# Altium footprint library MODULEs.PcbLib: 10 footprints (part 2 of 2)
Each footprint in its own frame and in the unit in brackets; x right, y up, seen from the top. Pads: shape width x height; smd on the part's side, far side on the other; paste and mask are expansions set on the pad; w line width, h text height; cw(c..) or ccw(c..) is an arc to the next point about the centre after c.
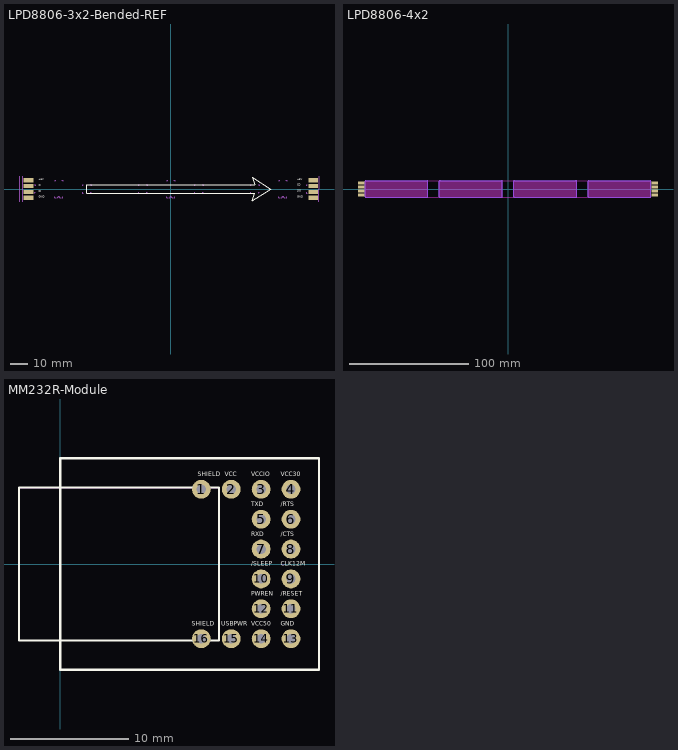
[diagram p1: the footprints below, top view; thin cyan lines are the x and y axes]

## LPD8806-3x2-Bended-REF [mm] "Digital Addressable RGB LED w/ PWM waterproof flexi strip - 3 modules of 2 LEDs"
pads (8):
  rect 5.5x2.5 smd: 1(-79.45,5) 2(-79.45,1.67) 3(-79.45,-1.67) 4(-79.45,-5) 5(79.45,-5) 6(79.45,-1.67) 7(79.45,1.67) 8(79.45,5)
Top Overlay:
  lines w0.2: -46.812,-2.45 46.812,-2.45 45.438,-6.5 55.762,0 45.438,6.5 46.812,2.45 -46.812,2.45 -46.812,-2.45
  text "GND" at 70.45,-5.55 h1.52
  text "DO" at 70.45,-2.22 h1.52
  text "CO" at 70.45,1.12 h1.52
  text "+5V" at 70.45,4.45 h1.52
  text "+5V" at -73.675,4.425 h1.52
  text "CI" at -73.675,1.095 h1.52
  text "DI" at -73.675,-2.245 h1.52
  text "GND" at -73.675,-5.575 h1.52
TopBody:
  lines w0.1: -63.6,-5 -63.199,-5 cw(c-62.5,-4.999) -61.801,-5 -61.4,-4.999 ; -1.1,-5 -0.7,-5 cw(c0,-5) 0.699,-5 1.1,-5 ; 61.4,-5 61.8,-5 cw(c62.5,-5) 63.199,-5 63.6,-5
  lines w0.2: -84.651,7.05 -84.647,-7.05 ; -82.65,-7.05 -82.646,7.05 ; -80.65,-1.95 -80.65,-2.499 -80.1,-2.499 ; -80.649,1.95 -80.65,2.499 -80.1,2.5 ; -76.2,-2.5 -76.2,-1.95 -75.651,-1.95 ; -76.2,2.499 -75.651,2.499 -75.65,1.95 ; -64.749,-4.45 -64.749,-4.999 -64.2,-5 ; -64.749,4.45 -64.749,4.999 -64.2,5 ; -60.8,-4.999 -60.251,-4.999 -60.25,-4.45 ; -60.8,4.999 -60.251,4.999 -60.25,4.45 ; -49.35,-1.95 -49.349,-2.499 -48.8,-2.499 ; -49.349,1.95 -49.349,2.5 -48.8,2.5 ; -44.9,-2.499 -44.9,-1.95 -44.351,-1.95 ; -44.9,2.5 -44.35,2.5 -44.35,1.95 ; -18.15,-1.95 -18.15,-2.5 -17.6,-2.5 ; -18.149,1.95 -18.15,2.499 -17.6,2.499 ; -13.7,-2.5 -13.7,-1.95 -13.151,-1.95 ; -13.7,2.499 -13.151,2.499 -13.15,1.95 ; -2.249,-4.45 -2.25,-5 -1.7,-5 ; -2.249,4.45 -2.25,4.999 -1.7,4.999 ; 1.7,-5 2.249,-5 2.25,-4.45 ; 1.7,4.999 2.249,4.999 2.25,4.45 ; 13.15,-1.95 13.151,-2.499 13.7,-2.499 ; 13.151,1.95 13.151,2.499 13.7,2.5 ; 17.6,-2.5 17.6,-1.95 18.149,-1.95 ; 17.6,2.499 18.15,2.499 18.15,1.95 ; 44.35,-1.95 44.35,-2.5 44.9,-2.5 ; 44.35,1.95 44.35,2.499 44.9,2.499 ; 48.8,-2.5 48.8,-1.95 49.349,-1.95 ; 48.8,2.499 49.349,2.499 49.349,1.95 ; 60.25,-4.45 60.25,-5 60.8,-5 ; 60.25,4.45 60.25,4.999 60.8,4.999 ; 64.2,-5 64.749,-5 64.749,-4.45 ; 64.2,4.999 64.749,4.999 64.749,4.45 ; 75.65,-1.95 75.65,-2.499 76.2,-2.499 ; 75.651,1.95 75.65,2.499 76.2,2.5 ; 80.1,-2.5 80.1,-1.95 80.649,-1.95 ; 80.1,2.499 80.649,2.499 80.65,1.95 ; 82.646,-7.05 82.65,7.05
3D body: height 0.5, standoff 0.4, extent 77.679,-6.221 82.121,-3.79
3D body: height 0.5, standoff 0.4, extent 77.679,-2.891 82.121,-0.46
3D body: height 0.5, standoff 0.4, extent 77.679,3.779 82.121,6.21
3D body: height 0.5, standoff 0.4, extent 77.679,0.449 82.121,2.88
3D body: height 0.41, standoff -6.61, extent -84.65,-7.05 -77.64,7.05
3D body: height -6.73, standoff -8.32, extent 76.059,-2.09 80.24,2.09
3D body: height -6.73, standoff -8.31, extent 75.65,-2.499 80.649,2.499
3D body: height -6.73, standoff -8.31, extent 44.35,-2.5 49.349,2.499
3D body: height -6.73, standoff -8.32, extent 44.76,-2.09 48.94,2.09
3D body: height -6.73, standoff -8.32, extent -48.94,-2.09 -44.76,2.09
3D body: height -6.73, standoff -8.31, extent -49.349,-2.499 -44.35,2.5
3D body: height -6.73, standoff -8.32, extent -80.24,-2.09 -76.06,2.09
3D body: height -6.73, standoff -8.31, extent -80.65,-2.499 -75.651,2.499
3D body: height -6.73, standoff -8.52, extent -2.25,-5 2.249,4.999
3D body: height -6.73, standoff -8.31, extent -18.15,-2.5 -13.151,2.499
3D body: height -6.73, standoff -8.32, extent -17.74,-2.09 -13.56,2.09
3D body: height -6.73, standoff -8.31, extent 13.151,-2.499 18.15,2.499
3D body: height -6.73, standoff -7.93, extent -2.25,-5 2.249,4.999
3D body: height -6.73, standoff -8.52, extent 60.25,-5 64.749,4.999
3D body: height -6.73, standoff -7.93, extent 60.25,-5 64.749,4.999
3D body: height -6.73, standoff -7.93, extent -64.749,-4.999 -60.251,4.999
3D body: height -6.73, standoff -8.32, extent 13.56,-2.09 17.74,2.09
3D body: height -6.32, standoff -6.63, extent -82.65,-7.05 82.65,7.05
3D body: height -7.93, standoff -8.52, extent -64.749,-5 -60.251,4.999
3D body: height 0.41, standoff -6.61, extent 77.64,-7.05 84.65,7.05
3D body: height 0.5, standoff 0.4, extent -82.121,0.449 -77.679,2.881
3D body: height 0.5, standoff 0.4, extent -82.121,3.779 -77.679,6.211
3D body: height 0.5, standoff 0.4, extent -82.121,-2.891 -77.679,-0.459
3D body: height 0.5, standoff 0.4, extent -82.121,-6.221 -77.679,-3.789
3D body: height 0.1, standoff 0, extent 77.679,0.449 82.121,2.88
3D body: height 0.1, standoff 0, extent 77.679,3.779 82.121,6.21
3D body: height 0.1, standoff 0, extent 77.679,-2.891 82.121,-0.46
3D body: height 0.1, standoff 0, extent 77.679,-6.221 82.121,-3.79
3D body: height 0.1, standoff 0, extent -82.121,-6.221 -77.679,-3.789
3D body: height 0.1, standoff 0, extent -82.121,-2.891 -77.679,-0.459
3D body: height 0.1, standoff 0, extent -82.121,3.779 -77.679,6.211
3D body: height 0.1, standoff 0, extent -82.121,0.449 -77.679,2.881

## LPD8806-4x2 [mm] "Digital Addressable RGB LED w/ PWM waterproof flexi strip - 4 modules of 2 LEDs"
pads (8):
  rect 5.5x2.5 smd: 1(-123.6,5) 2(-123.6,1.67) 3(-123.6,-1.67) 4(-123.6,-5) 5(123.6,-5) 6(123.6,-1.67) 7(123.6,1.67) 8(123.6,5)
Top Layer keep-out:
  lines w0.5: -120.15,-6.6 ccw(c-119.65,-6.6) -119.65,-7.1 119.65,-7.1 ccw(c119.65,-6.6) 120.15,-6.6 120.15,6.6 ccw(c119.65,6.6) 119.65,7.1 -119.65,7.1 ccw(c-119.65,6.6) -120.15,6.6 -120.15,-6.6
Bottom Layer keep-out:
  lines w0.5: -120.45,-6.6 ccw(c-119.95,-6.6) -119.95,-7.1 -68.15,-7.1 ccw(c-68.15,-6.6) -67.65,-6.6 -67.65,6.6 ccw(c-68.15,6.6) -68.15,7.1 -119.95,7.1 ccw(c-119.95,6.6) -120.45,6.6 -120.45,-6.6 ; -57.75,-6.6 ccw(c-57.25,-6.6) -57.25,-7.1 -5.45,-7.1 ccw(c-5.45,-6.6) -4.95,-6.6 -4.95,6.6 ccw(c-5.45,6.6) -5.45,7.1 -57.25,7.1 ccw(c-57.25,6.6) -57.75,6.6 -57.75,-6.6 ; 4.95,-6.6 ccw(c5.45,-6.6) 5.45,-7.1 57.25,-7.1 ccw(c57.25,-6.6) 57.75,-6.6 57.75,6.6 ccw(c57.25,6.6) 57.25,7.1 5.45,7.1 ccw(c5.45,6.6) 4.95,6.6 4.95,-6.6 ; 67.65,-6.6 ccw(c68.15,-6.6) 68.15,-7.1 119.95,-7.1 ccw(c119.95,-6.6) 120.45,-6.6 120.45,6.6 ccw(c119.95,6.6) 119.95,7.1 68.15,7.1 ccw(c68.15,6.6) 67.65,6.6 67.65,-6.6
Keep-Out Layer:
  board cut-out: -119.95,-7.1 -68.15,-7.1 -68.15,-7.11 -67.955,-7.071 -67.79,-6.961 -67.679,-6.795 -67.64,-6.6 -67.65,-6.6 -67.64,6.6 -67.679,6.795 -67.79,6.96 -67.955,7.071 -68.15,7.11 -68.15,7.1 -119.95,7.11 -120.145,7.071 -120.31,6.96 -120.421,6.795 -120.46,6.6 -120.45,6.6 -120.46,-6.6 -120.421,-6.795 -120.31,-6.96 -120.145,-7.071 -119.95,-7.11
  board cut-out: 67.64,-6.6 67.679,-6.795 67.79,-6.96 67.955,-7.071 68.15,-7.11 68.15,-7.1 119.95,-7.11 120.145,-7.071 120.31,-6.96 120.421,-6.795 120.46,-6.6 120.45,-6.6 120.46,6.6 120.421,6.795 120.31,6.96 120.145,7.071 119.95,7.11 119.95,7.1 68.15,7.11 67.955,7.071 67.79,6.96 67.679,6.795 67.64,6.6 67.65,6.6
  board cut-out: 4.94,-6.6 4.979,-6.795 5.09,-6.96 5.255,-7.071 5.45,-7.11 5.45,-7.1 57.25,-7.1 57.25,-7.11 57.445,-7.071 57.61,-6.961 57.721,-6.795 57.76,-6.6 57.75,-6.6 57.76,6.6 57.721,6.795 57.61,6.96 57.445,7.071 57.25,7.11 57.25,7.1 5.45,7.11 5.255,7.071 5.09,6.96 4.979,6.795 4.94,6.6 4.95,6.6
  board cut-out: -57.25,-7.11 -57.445,-7.071 -57.61,-6.96 -57.721,-6.795 -57.76,-6.6 -57.75,-6.6 -57.76,6.6 -57.721,6.795 -57.61,6.96 -57.445,7.071 -57.25,7.11 -57.25,7.1 -5.45,7.1 -5.45,7.11 -5.255,7.071 -5.09,6.96 -4.979,6.795 -4.94,6.6 -4.95,6.6 -4.94,-6.6 -4.979,-6.795 -5.09,-6.961 -5.255,-7.071 -5.45,-7.11 -5.45,-7.1
Outline:
  lines w0.1: -120.45,-6.6 ccw(c-119.95,-6.6) -119.95,-7.1 -68.15,-7.1 ccw(c-68.15,-6.6) -67.65,-6.6 -67.65,6.6 ccw(c-68.15,6.6) -68.15,7.1 -119.95,7.1 ccw(c-119.95,6.6) -120.45,6.6 -120.45,-6.6 ; -57.75,-6.6 ccw(c-57.25,-6.6) -57.25,-7.1 -5.45,-7.1 ccw(c-5.45,-6.6) -4.95,-6.6 -4.95,6.6 ccw(c-5.45,6.6) -5.45,7.1 -57.25,7.1 ccw(c-57.25,6.6) -57.75,6.6 -57.75,-6.6 ; 4.95,-6.6 ccw(c5.45,-6.6) 5.45,-7.1 57.25,-7.1 ccw(c57.25,-6.6) 57.75,-6.6 57.75,6.6 ccw(c57.25,6.6) 57.25,7.1 5.45,7.1 ccw(c5.45,6.6) 4.95,6.6 4.95,-6.6 ; 67.65,-6.6 ccw(c68.15,-6.6) 68.15,-7.1 119.95,-7.1 ccw(c119.95,-6.6) 120.45,-6.6 120.45,6.6 ccw(c119.95,6.6) 119.95,7.1 68.15,7.1 ccw(c68.15,6.6) 67.65,6.6 67.65,-6.6
3D body: height 0.3, standoff 0, extent -125.4,-7.05 125.4,7.05
3D body: height 0, standoff -1.59, extent -112.9,-2.5 -107.901,2.499
3D body: height 0, standoff -1.6, extent -112.49,-2.09 -108.31,2.09
3D body: height 0, standoff -1.6, extent -112.49,-2.09 -108.31,2.09
3D body: height 0, standoff -1.59, extent -112.9,-2.5 -107.901,2.499
3D body: height 0, standoff -1.6, extent -49.79,-2.09 -45.61,2.09
3D body: height 0, standoff -1.59, extent -50.2,-2.5 -45.201,2.499
3D body: height 0, standoff -1.59, extent -80.199,-2.499 -75.201,2.499
3D body: height 0, standoff -1.6, extent -79.79,-2.09 -75.61,2.09
3D body: height 0, standoff -1.6, extent 12.91,-2.09 17.09,2.09
3D body: height 0, standoff -1.59, extent 12.5,-2.5 17.499,2.499
3D body: height 0, standoff -1.59, extent -17.499,-2.499 -12.501,2.499
3D body: height 0, standoff -1.6, extent -17.09,-2.09 -12.91,2.09
3D body: height 0, standoff -1.6, extent 75.61,-2.09 79.79,2.09
3D body: height 0, standoff -1.59, extent 75.2,-2.5 80.199,2.499
3D body: height 0, standoff -1.59, extent 45.201,-2.499 50.199,2.499
3D body: height 0, standoff -1.6, extent 45.61,-2.09 49.79,2.09
3D body: height 0, standoff -1.59, extent 107.901,-2.499 112.899,2.499
3D body: height 0, standoff -1.6, extent 108.31,-2.09 112.49,2.09
3D body: height 0, standoff -1.8, extent -96.299,-4.999 -91.801,4.999
3D body: height 0, standoff -1.8, extent -33.599,-4.999 -29.101,4.999
3D body: height 0, standoff -1.8, extent 29.101,-4.999 33.599,4.999
3D body: height 0, standoff -1.8, extent 91.801,-4.999 96.299,4.999

## MM232R-Module [mm] "MM232R - FTDI - KIT, USB-UART TTL, FT232RL, Module"
height 15
pads (16):
  round 1.6 hole 0.8: 1(12,6.35) 2(14.54,6.35) 3(17.08,6.35) 4(19.62,6.35) 5(17.08,3.81) 6(19.62,3.81) 7(17.08,1.27) 8(19.62,1.27) 9(19.62,-1.27) 10(17.08,-1.27) 11(19.62,-3.81) 12(17.08,-3.81) 13(19.62,-6.35) 14(17.08,-6.35) 15(14.54,-6.35) 16(12,-6.35)
Top Overlay:
  lines w0.2: -3.5,-6.5 13.5,-6.5 13.5,6.5 -3.5,6.5 -3.5,-6.5 ; 0,-9 0,9 22,9 22,-9 0,-9
  text "SHIELD" at 11.7,7.325 h0.64
  text "VCC" at 13.97,7.325 h0.64
  text "VCCIO" at 16.25,7.325 h0.64
  text "VCC30" at 18.75,7.325 h0.64
  text "/RTS" at 18.75,4.785 h0.64
  text "TXD" at 16.25,4.785 h0.64
  text "/SLEEP" at 16.25,-0.295 h0.64
  text "CLK12M" at 18.75,-0.295 h0.64
  text "/CTS" at 18.75,2.245 h0.64
  text "RXD" at 16.25,2.245 h0.64
  text "VCC50" at 16.25,-5.375 h0.64
  text "GND" at 18.75,-5.375 h0.64
  text "/RESET" at 18.75,-2.835 h0.64
  text "PWREN" at 16.25,-2.835 h0.64
  text "USBPWR" at 13.67,-5.375 h0.64
  text "SHIELD" at 11.17,-5.375 h0.64
TopBody:
  lines w0.1: -3.5,-6.5 13.5,-6.5 13.5,6.5 -3.5,6.5 -3.5,-6.5 ; 0,-9 0,9 22,9 22,-9 0,-9
3D body: height 15, standoff 4, extent -3.5,-6.5 13.5,6.5
3D body: height 6, standoff 0, extent 0,-9 22,9